# Altium schematic symbol library C&K 4 Pin Tactile Switch.SchLib: 1 symbol
Pins are listed as number, name and electrical type; pins without a type are passive.

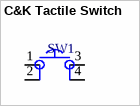
[diagram p0: symbol C&K Tactile Switch]

## C&K Tactile Switch
designator SW1, comment Tactile Switch  (value not drawn)
Supplier 1: Digi-Key; Supplier Part Number 1: CKN9085CT-ND
footprint C&K 4 pin Tactile Switch (Digikey: CKN9085CT-ND MFG: PTS645SH50SMTR92 LFS)
pins: 1, 2, 3, 4